# Altium schematic symbol library SCH - POWER - SWITCHMODE - TI TPS65263-Q1RHB.SchLib: 1 symbol
Pins are listed as number, name and electrical type; pins without a type are passive.

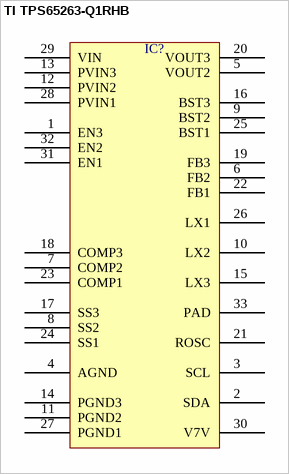
[diagram p0: symbol TI TPS65263-Q1RHB]

## TI TPS65263-Q1RHB
designator IC?  (value not drawn)
pins: 1 EN3, 2 SDA, 3 SCL, 4 AGND, 5 VOUT2, 6 FB2, 7 COMP2, 8 SS2, 9 BST2, 10 LX2, 11 PGND2, 12 PVIN2, 13 PVIN3, 14 PGND3, 15 LX3, 16 BST3, 17 SS3, 18 COMP3, 19 FB3, 20 VOUT3, 21 ROSC, 22 FB1, 23 COMP1, 24 SS1, 25 BST1, 26 LX1, 27 PGND1, 28 PVIN1, 29 VIN, 30 V7V, 31 EN1, 32 EN2, 33 PAD